# Altium integrated library CAP_Aluminum.IntLib: 15 symbols
Pins are listed as number, name and electrical type; pins without a type are passive.

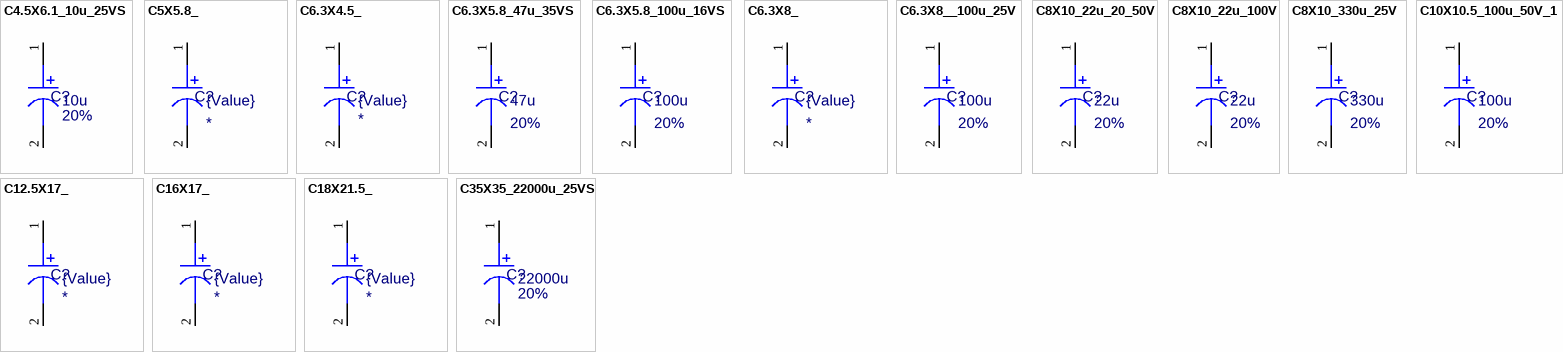
[diagram p0: symbols C4.5X6.1_10u_25VS to C35X35_22000u_25VS]

## C4.5X6.1_10u_25VS
designator C?, comment value 10u  Tolerance: 20%  (hidden comment: AWT25-000131)
Capacitor, 10uF 25V 20%; ECAD_Revision: 1; Librarian: UK; PartNumber: AWT25-000131; Power Rating: 25V; Item: *
simulation model CAP
footprint C4.5X6.1 (Panasonic size B, EEEFK1 Series, Rev. 1)
pins: 1, 2

## C5X5.8_
designator C?, comment value {Value}  (hidden comment: For futrue use)
Capacitor,; ECAD_Revision: 1; Librarian: US; PartNumber: For futrue use; Power Rating: *; HelpURL: K:\ACCELEDA\PDF Spec Files\CAPS\52723.pdf; Item: *; Tolerance: *
simulation model CAP
footprint C5X5.8
pins: 1, 2

## C6.3X4.5_
designator C?, comment value {Value}  (hidden comment: For futrue use)
Capacitor,; ECAD_Revision: 1; Librarian: US; PartNumber: For futrue use; Power Rating: *; HelpURL: K:\ACCELEDA\PDF Spec Files\CAPS\52723.pdf; Item: *; Tolerance: *
simulation model CAP
footprint C6.3X4.5
pins: 1, 2

## C6.3X5.8_47u_35VS
designator C?, comment value 47u  Tolerance: 20%  (hidden comment: CXB47U00M035NA)
Capacitor, 47uF 35V 20%; ECAD_Revision: 1; Librarian: UK; PartNumber: CXB47U00M035NA; Power Rating: 35V; Item: *
simulation model CAP
footprint C6.3X5.8 (Rev.1)
pins: 1, 2

## C6.3X5.8_100u_16VS
designator C?, comment value 100u  Tolerance: 20%  (hidden comment: CXB100U0M016NA)
Capacitor, 100uF 16V 20%; ECAD_Revision: 1; Librarian: UK; PartNumber: CXB100U0M016NA; Power Rating: 16V; Item: *
simulation model CAP
footprint C6.3X5.8 (Rev.1)
pins: 1, 2

## C6.3X8_
designator C?, comment value {Value}  (hidden comment: For futrue use)
Capacitor,; ECAD_Revision: 1; Librarian: US; PartNumber: For futrue use; Power Rating: *; HelpURL: K:\ACCELEDA\PDF Spec Files\CAPS\52723.pdf; Item: *; Tolerance: *
simulation model CAP
footprint C6.3X8
pins: 1, 2

## C6.3X8__100u_25V
designator C?, comment value 100u  Tolerance: 20%  (hidden comment: 60148-0460)
Capacitor, 100uF 25V; ECAD_Revision: 1; Librarian: US; PartNumber: 60148-0460; Power Rating: 25V; HelpURL: K:\ACCELEDA\PDF Spec Files\CAPS\52723.pdf; Item: *
simulation model CAP
footprint C6.3X8
pins: 1, 2

## C8X10_22u_20_50V
designator C?, comment value 22u  Tolerance: 20%  (hidden comment: CXB22U00M050NA)
Capacitor, 22uF 20% 50V; ECAD_Revision: 1; Librarian: UK; PartNumber: CXB22U00M050NA; Power Rating: 50V; HelpURL: *; Item: *
simulation model CAP
footprint C8X10
pins: 1, 2

## C8X10_22u_100V
designator C?, comment value 22u  Tolerance: 20%  (hidden comment: 60148-0817)
Capacitor, 22uF 100V; ECAD_Revision: 1; Librarian: US; PartNumber: 60148-0817; Power Rating: 100V; HelpURL: K:\ACCELEDA\PDF Spec Files\CAPS\52723.pdf; Item: *
simulation model CAP
footprint C8X10
pins: 1, 2

## C8X10_330u_25V
designator C?, comment value 330u  Tolerance: 20%  (hidden comment: 60148-0494)
Capacitor, 330uF 25V; ECAD_Revision: 1; Librarian: US; PartNumber: 60148-0494; Power Rating: 25V; HelpURL: K:\ACCELEDA\PDF Spec Files\CAPS\52723.pdf; Item: *
simulation model CAP
footprint C8X10
pins: 1, 2

## C10X10.5_100u_50V_1
designator C?, comment value 100u  Tolerance: 20%  (hidden comment: CXB100U0M050NA-X)
Capacitor, 100uF 50V; ECAD_Revision: 1; Librarian: UK; PartNumber: CXB100U0M050NA-X; Power Rating: 50V; Item: *
simulation model CAP
footprint C10X10.5 (REV 1)
pins: 1, 2

## C12.5X17_
designator C?, comment value {Value}  (hidden comment: For futrue use)
Capacitor,; ECAD_Revision: 1; Librarian: US; PartNumber: For futrue use; Power Rating: *; HelpURL: K:\ACCELEDA\PDF Spec Files\CAPS\52723.pdf; Item: *; Tolerance: *
simulation model CAP
footprint C12.5X17
pins: 1, 2

## C16X17_
designator C?, comment value {Value}  (hidden comment: For futrue use)
Capacitor,; ECAD_Revision: 1; Librarian: US; PartNumber: For futrue use; Power Rating: *; HelpURL: K:\ACCELEDA\PDF Spec Files\CAPS\52723.pdf; Item: *; Tolerance: *
simulation model CAP
footprint C16X17
pins: 1, 2

## C18X21.5_
designator C?, comment value {Value}  (hidden comment: For futrue use)
Capacitor,; ECAD_Revision: 1; Librarian: US; PartNumber: For futrue use; Power Rating: *; HelpURL: K:\ACCELEDA\PDF Spec Files\CAPS\52723.pdf; Item: *; Tolerance: *
simulation model CAP
footprint C18X21.5
pins: 1, 2

## C35X35_22000u_25VS
designator C?, comment value 22000u  Tolerance: 20%  (hidden comment: AWT25-000122)
Capacitor, 22000uF 25V 20%; ECAD_Revision: 1; Librarian: UK; PartNumber: AWT25-000122; Power Rating: 25V; Item: *
simulation model CAP
footprint C35X35 (Diameter 10mm pitch, 35mm, height 37mm, Rev. 1)
pins: 1, 2